# Altium integrated library BurglarAlarm.IntLib: 31 symbols
Pins are listed as number, name and electrical type; pins without a type are passive.

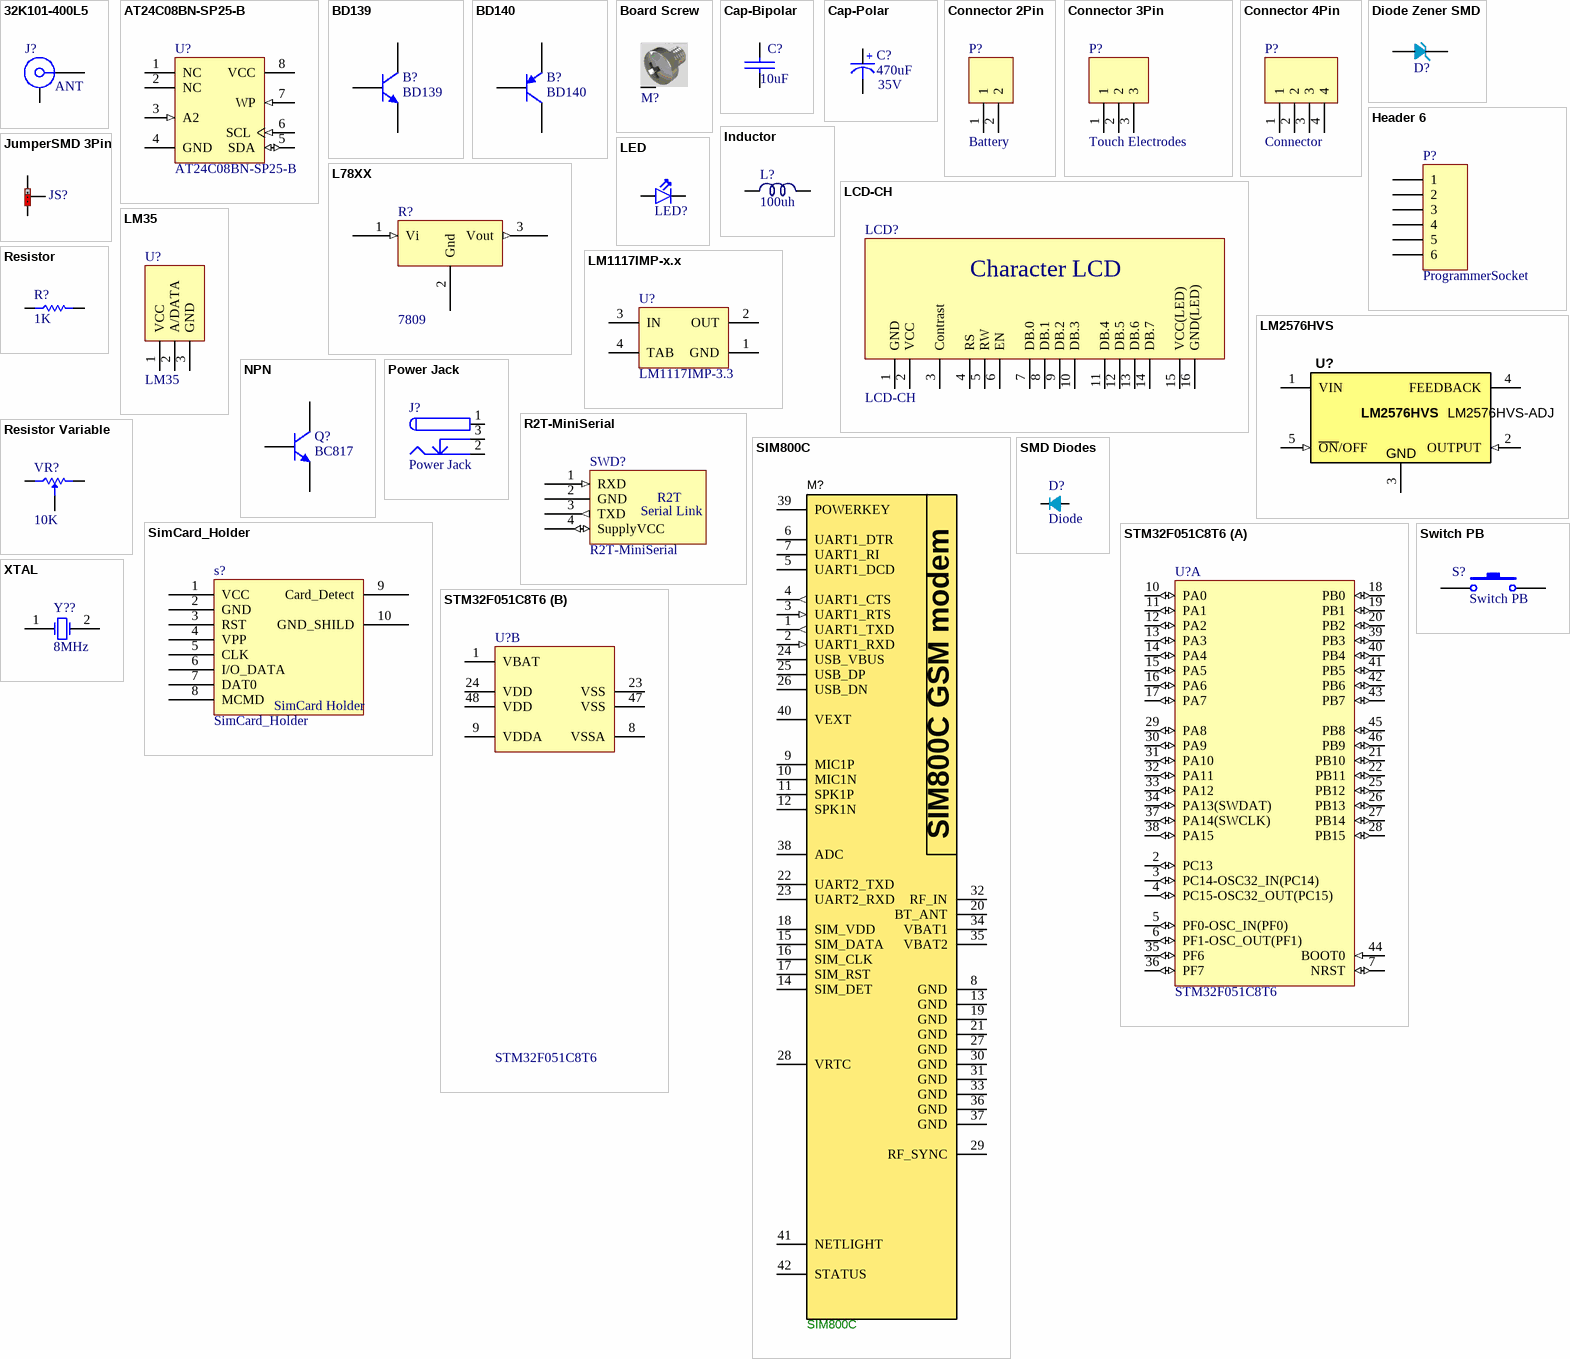
[diagram p0: symbols 32K101-400L5 to XTAL]

## 32K101-400L5
designator J?, comment ANT
SMA Straight Jack, Up to 18 GHz; PartNumber: 32K101-400L5; Design Note: Footprint in library is a generic example - only application specific footprint delivers High Performance; DatasheetVersion: a00; PackageVersion: a00; PackageReference: 32K101-400L5; PackageDescription: SMA Straight Jack, 6.35 x 6.35 x 9.5 mm; Mounting Technology: Through Hole; ComponentLink1Description: Manufacturer URL; ComponentLink1URL: http://www.rosenberger.de; ComponentLink2Description: Datasheet; ComponentLink2URL: http://rosenberger.de/ok/images/documents/db/32K101-400L5.pdf; ComponentLink3Description: Package Specification; ComponentLink3URL: http://rosenberger.de/ok/images/documents/db/32K101-400L5.pdf; ComponentLink4Description: Series Overview / Design Note; ComponentLink4URL: http://rosenberger.de/ok/images/documents/spez/32.pdf; ComponentLink5Description: Webshop / RFQ; ComponentLink5URL: http://www.rosenberger.com/en/contact/sales/
footprint ROS-32K101-400L5_V (SMA Straight Jack, 6.35x6.35x9.5mm, Rosenberger Recommended)
pins: 1, MH

## AT24C08BN-SP25-B
designator U?
8Kbit EEPROM; DatasheetVersion: 8517C,  Jan-2009; PackageVersion: revC, Mar-2005; PackageReference: 8S1; PackageDescription: 8-Lead (0.150" Wide Body), Plastic Gull Wing Small Outline (JEDEC SOIC); Code_JEDEC: MS-012-AA; Code_IPC: SOIC127P600-8; ComponentLink1Description: Manufacturer URL; ComponentLink1URL: http://www.atmel.com/; ComponentLink2Description: Datasheet; ComponentLink2URL: http://www.atmel.com/dyn/resources/prod_documents/doc8517.pdf
footprint 8S1_N (SOIC, 8-Leads, Body 4.9x3.9mm, Pitch 1.27mm, IPC Medium Density)
footprint 8S1_L (SOIC, 8-Leads, Body 4.9x3.9mm, Pitch 1.27mm, IPC High Density)
footprint 8S1_M (SOIC, 8-Leads, Body 4.9x3.9mm, Pitch 1.27mm, IPC Low Density)
pins: 1 NC, 2 NC, 3 A2 (in), 4 GND (power), 5 SDA (io), 6 SCL (in), 7 WP (in), 8 VCC (power)

## BD139
designator B?
BJT
footprint BD139
pins: B, C, E

## BD140
designator B?
PNP BJT
footprint BD140
pins: B, C, E

## Board Screw
designator M?, comment Screw  (value not drawn)
Board Screw With Spacer
footprint Board Screw
footprint Board Screw_No Silk
pins: S

## Cap-Bipolar
designator C?, comment 10uF
Bipolar Capacitor; Voltage: 100V; Designer: Saeid Jorablo; Organazation: ControTec; Adding Date: 1387/12/20; Value: 10uF
footprint Cap 1uF-400v-Right
footprint Cap 1uF-400V-Stand
footprint Cap 10nF
footprint Cap - 100nF
footprint Cap - 100nF - 2
footprint Cap_680nF
footprint CAP 1206 (3216X15L) (Chip Capacitor, 2-Leads, Body 3.2x1.6mm, IPC High Density)
footprint CAPP 1206 (3216X18L) Size A (Chip Capacitor, 2-Leads, Body 3.2x1.6mm, IPC High Density, chip Tantalum)
footprint Cap - 10nF - 630V
footprint Cap - 100nF - 400V
footprint Cap - 220n - 400V - Poly
footprint Cap - 330nF - 400V
footprint SMD_CAP_0603
footprint SMD_CAP_0805
footprint SMD_CAP_1206
pins: 1 +, 2 -

## Cap-Polar
designator C?, comment Voltage: 35V  (hidden comment: 470uF)
Polar Capacitor; Designer: Saeid Jorablo; Organazation: ControTec; Adding Date: 1387/12/20; Value: 470uF
footprint cap 00
footprint cap 01
footprint cap 02
footprint cap 03
footprint cap 04
footprint CAP 05
footprint CAPP 1206 (3216X18L) Size A (Chip Capacitor, 2-Leads, Body 3.2x1.6mm, IPC High Density, chip Tantalum)
pins: 1 +, 2 -

## Connector 2Pin
designator P?, comment Battery
12V Lead acid battery; Designer:: Hamed Jafarzadeh - www.R2T.ir
footprint Polarized Header 2
footprint Terminal Block 2pin
footprint Phoenix 2pin ST (-)
footprint PH Connector 2Pin
pins: 1, 2

## Connector 3Pin
designator P?, comment Touch Electrodes
3 pin PH connector; Designer:: Hamed Jafarzadeh - www.R2T.ir
footprint Polarized Header 3
footprint Terminal Block 3Pin
footprint Phoenix 3pin ST (-)
footprint PH Connector 3Pin
pins: 1, 2, 3

## Connector 4Pin
designator P?, comment Connector
PIR connector; Designer:: Hamed Jafarzadeh - www.R2T.ir
footprint Polarized Header 4
footprint Phoenix 4pin ST (-)
footprint PH 4A Connector
pins: 1, 2, 3, 4

## Diode Zener SMD
designator D?, comment SS34  (value not drawn)
Fast or shotky Diode; Designer: Hamed Jafarzadeh
footprint DIOMELF3615N (MELF Diode, 2-Leads, Body 3.6x1.5mm, IPC Medium Density)
footprint Diode Zener 1W SMD-SOD106 (MELF Diode, 2-Leads, Body 3.6x1.5mm, IPC Medium Density)
pins: 1, 2

## Header 6
designator P?, comment ProgrammerSocket
programming socket; LatestRevisionDate: 17-Jul-2002; LatestRevisionNote: Re-released for DXP Platform.; Publisher: Altium Limited
footprint HDR1X6 (Connector; Header; 6 Position)
signal-integrity model Connector
pins: 1, 2, 3, 4, 5, 6

## Inductor
designator L?, comment 100uh
Inductor; Designer:: Hamed Jafarzadeh - hjafarzadeh511@gmail.com
footprint General 10x12(200m) Inductor
footprint INDChip_0805
footprint INDChip_1206
pins: 1, 2

## JumperSMD 3Pin
designator JS?  (value not drawn)
footprint JumperSMD 3Pin
footprint JumperSMD 3Pin - UltraSmall
pins: 1, 2, 3

## L78XX
designator R?, comment L7809  (value not drawn)
7809 deep 9V Linear Regulator
footprint To-220 (L78XX)
pins: 1 Vi (in), 2 Gnd, 3 Vout (out)
text: 7809

## LCD-CH
designator LCD?
LCD 16*2
footprint LCD2-16
footprint LCD4*20
pins: 1 GND, 2 VCC, 3 Contrast, 4 RS, 5 RW, 6 EN, 7 DB.0, 8 DB.1, 9 DB.2, 10 DB.3, 11 DB.4, 12 DB.5, 13 DB.6, 14 DB.7, 15 VCC(LED), 16 GND(LED)
text: Character LCD

## LED
designator LED?  (value not drawn)
Designer :: Razi Research Team Of Mashhad - Hamed Jafarzadeh
footprint LED0603
footprint LED0805
footprint LED1206
pins: 1 A, 2 K

## LM35
designator U?
Temperature sensor
footprint LM35
pins: 1 VCC, 2 A/DATA, 3 GND

## LM1117IMP-x.x
designator U?, comment LM1117IMP-3.3
3.3 Volt, 800mA Linear Regulator; Manufacturer: National Semiconductor; PackageTopMarking: XYTT*N05B; PowerWise: N; CompType: LDO IC; Published: 4-Dec-2008; DatasheetVersion: Apr-2006; PackageVersion: revB, Apr-2003; PackageReference: MP04A; Publisher: Altium Limited; PackageDescription: Molded SOT-223, 6.50 x 3.56 x 1.6mm Body, 4 Lead, 2.3mm Pitch; Supplier 1: Farnell; Supplier Part Number 1: 7614123; PartNumber: LM1117IMP-3.3; RoHS: N; PinCount: 4; Code_JEDEC: TO-261-AA; Code_IPC: SOT223-4; ComponentLink1Description: LM1117 Datasheet; ComponentLink1URL: http://www.national.com/ds/LM/LM1117.pdf; ComponentLink2Description: LM1117 Web Page; ComponentLink2URL: http://www.national.com/pf/LM/LM1117.html; ComponentLink3Description: MP04A Package Page; ComponentLink3URL: http://www.national.com/packaging/folders/mp04a.html
footprint MP04A_N (SOT223, 4-Leads, Body 6.5x3.5mm, Pitch 2.3mm, Lead Span 7mm, IPC Medium Density)
footprint MP04A_L (SOT223, 4-Leads, Body 6.5x3.5mm, Pitch 2.3mm, Lead Span 7mm, IPC High Density)
footprint MP04A_M (SOT223, 4-Leads, Body 6.5x3.5mm, Pitch 2.3mm, Lead Span 7mm, IPC Low Density)
pins: 1 GND (power), 2 OUT (power), 3 IN (power), 4 TAB (power)

## LM2576HVS
designator U?, comment LM2576HVS-ADJ  Manufacturer Part Number 1: LM2576HVS
Switching Voltage Regulator, SMD, LM2576HVS-Adjustable; Manufacturer 1: National Semiconductor; Voltage Regulator Type: Switching Buck; Tolerance: ±4%; Ratings: 60Vin Max; 150kHz; Value: 5V; 1A; SCDType: source; Package / Case: TO-263-5; Supplier 1: Digi-Key; Supplier Part Number 1: LM2591HVS-5.0-ND
footprint TO-263-5 (D-PAK/TO-263-5; 5 Leads; Body 14.4 (inc. leads) x 10.4 mm (LxW max))
pins: 1 VIN (power), 2 OUTPUT (in), 3 GND (power), 4 FEEDBACK (power), 5 ~{ON}/OFF (in)

## NPN
designator Q?, comment BC817
NPN Bipolar Transistor; Published: 8-Jun-2000; LatestRevisionDate: 29-May-2009; LatestRevisionNote: IPC-7351 Footprint Added.; PackageVersion: Aug-1999; PackageReference: SOT-23B; Publisher: Altium Limited; PackageDescription: 3-Pin SOT-23 Package 0.95 mm Pitch, 2.4 mm Lead Span
signal-integrity model NPN
footprint SOT23_BEC_L (SOT23, 3-Leads, Body 2.9x1.3mm, Pitch 0.95mm, Lead Span 2.4mm, IPC High Density)
footprint SOT23_BEC_M (SOT23, 3-Leads, Body 2.9x1.3mm, Pitch 0.95mm, Lead Span 2.4mm, IPC Low Density)
footprint SOT23_BEC_N (SOT23, 3-Leads, Body 2.9x1.3mm, Pitch 0.95mm, Lead Span 2.4mm, IPC Medium Density)
pins: 1 B, 2 E, 3 C

## Power Jack
designator J?
15V DC 1A Adaptor; Designer: Saeid Jorablo; Company: Personal; Project Name: Laser; Adding Date: 10/21/2009
footprint Power Jack
pins: 1 (power), 2 (power), 3 (power)

## R2T-MiniSerial
designator SWD?
USART connector
footprint SerialWireMini
pins: 1 RXD (in), 2 GND, 3 TXD (out), 4 SupplyVCC (io)
text: R2T; Serial Link

## Resistor
designator R?, comment 1K
Resistor; Tolerance: 5%; Power: 1/8 W; Value: 1K
simulation model Model Name (Model Description)
footprint Res-(1/8)
footprint Res-(1/4)
footprint Res-(1/2)
footprint Res-(1/1)
footprint Res-(2/1)
footprint RES 0201 (0603X03L) (Chip Resistor, 2-Leads, Body 0.6x0.3mm, IPC High Density (0.05 W))
footprint RES 0402 (1005X04L) (Chip Resistor, 2-Leads, Body 1.0x0.5mm, IPC High Density _ (0.031/0.063 W))
footprint RES 0603 (1608X06L) (Chip Resistor, 2-Leads, Body 1.6x0.8mm, IPC High Density _ (0.063W))
footprint RES 0805 (2012X06L) (Chip Resistor, 2-Leads, Body 2.0x1.3mm, IPC High Density _ (0.100 W))
footprint RES 1206 (3216X08L) (Chip Resistor, 2-Leads, Body 3.2x1.6mm, IPC High Density _ (0.125 W))
footprint RES 1210 (3226X07L) (Chip Resistor, 2-Leads, Body 3.2x2.6mm, IPC High Density _ (0.250 W))
footprint RES 1217 (3042X09L) (Chip Resistor, 2-Leads, Body 3.0x4.2mm, IPC High Density _ (0.250 W))
footprint RES 2010 (5026X08L) (Chip Resistor, 2-Leads, Body 5.0x2.6mm, IPC High Density _ (0.250 W))
footprint RES 2020 (5151X09L) (Chip Resistor, 2-Leads, Body 5.1x5.1mm, IPC High Density _ (0.5 W))
footprint RES 2045 (50115X09L) (Chip Resistor, 2-Leads, Body 5.0x11.5mm, IPC High Density _ (1.0 W))
footprint RES 2512 (6331X07L) (Chip Resistor, 2-Leads, Body 6.3x3.1mm, IPC High Density _ (0.500 W))
footprint Res-(1/4)-Stand
footprint Res-(5/1)-Stand
footprint SMD_RES_0603 (Chip Resistor, 2-Leads, Body 1.6x0.8mm, IPC High Density _ (0.063W))
footprint SMD_RES_0805 (Chip Resistor, 2-Leads, Body 2.0x1.3mm, IPC High Density _ (0.100 W))
footprint SMD_RES_1206 (Chip Resistor, 2-Leads, Body 3.2x1.6mm, IPC High Density _ (0.125 W))
pins: 1, 2

## Resistor Variable
designator VR?, comment 10K
Variable Resistor; Designer: Saeid Jorablo; Company: ControTec; Adding Date: 137/12/22; Value: 10K
footprint Pot 00
footprint Multi Turn 02
pins: 1 CCW, 2 CW, 3 Setpoint

## SIM800C
designator M?
Sim800c GSM modem
footprint SIM800C
footprint Sim800c
pins: 1 UART1_TXD (out), 2 UART1_RXD (in), 3 UART1_RTS (in), 4 UART1_CTS (out), 5 UART1_DCD, 6 UART1_DTR, 7 UART1_RI, 8 GND, 9 MIC1P, 10 MIC1N, 11 SPK1P, 12 SPK1N, 13 GND, 14 SIM_DET, 15 SIM_DATA, 16 SIM_CLK, 17 SIM_RST, 18 SIM_VDD, 19 GND, 20 BT_ANT, 21 GND, 22 UART2_TXD, 23 UART2_RXD, 24 USB_VBUS, 25 USB_DP, 26 USB_DN, 27 GND, 28 VRTC, 29 RF_SYNC, 30 GND, 31 GND, 32 RF_IN, 33 GND, 34 VBAT1, 35 VBAT2, 36 GND, 37 GND, 38 ADC, 39 POWERKEY, 40 VEXT, 41 NETLIGHT, 42 STATUS
text: SIM800C GSM modem

## SimCard_Holder
designator s?
Sim Holder
footprint Standard_Sim
pins: 1 VCC (hiz), 2 GND (hiz), 3 RST (hiz), 4 VPP (hiz), 5 CLK (hiz), 6 I/O_DATA (hiz), 7 DAT0 (hiz), 8 MCMD (hiz), 9 Card_Detect (hiz), 10 GND_SHILD (hiz)
text: SimCard Holder

## SMD Diodes
designator D?, comment Description:: Diode  (hidden comment: 1N4007)
SMD Diode; Designer :: Hamed Jafarzadeh
footprint DO-214AC ( SMD Diode )
footprint SMB-CASE 403-A03 (Molded Diode,MURS120T)
pins: 0, 1

## STM32F051C8T6
designator U?
ARM Cortex-M0 32-bit, 48-pin LQFP; FLASH Size (Prog) (kB): 64; I/Os (High Current): 39; Internal RAM Size (kB): 8; Operating Frequency(F) (Processor speed) (MHz): 48; Packing: Tray; Supply Voltage(Vcc) min (V): 2; DatasheetVersion: Rev. 3; PackageVersion: Rev. 6, 06/2013; PackageReference: LQFP48; PackageDescription: 48-Pin Low Profile Quad Flat Package, 7 x 7 mm Body, 0.5 mm Pitch; Supplier 1: Digi-Key; Supplier Part Number 1: 497-12893-ND; Supplier 2: Farnell; Supplier Part Number 2: 2115065; Supplier 3: Newark; Supplier Part Number 3: 05W5802; Supplier 4: Newark; Supplier Part Number 4: 90T0636; Supplier 5: Mouser; Supplier Part Number 5: 511-STM32F051C8T6; Core: ARM Cortex-M0; Mounting Technology: Surface Mount; PartNumber: STM32F051C8T6; ComponentLink1Description: Manufacturer URL; ComponentLink1URL: http://www.st.com/web/en/home.html; ComponentLink2Description: Datasheet; ComponentLink2URL: http://www.st.com/st-web-ui/static/active/en/resource/technical/document/datasheet/DM00039193.pdf; ComponentLink3Description: Package Specification; ComponentLink3URL: http://www.st.com/st-web-ui/static/active/en/resource/technical/document/datasheet/DM00058181.pdf
footprint STM-LQFP48_N (QFP, 48-Leads, Body 7x7mm, Pitch 0.5mm, IPC Medium Density)
footprint STM-LQFP48_L (QFP, 48-Leads, Body 7x7mm, Pitch 0.5mm, IPC High Density)
footprint STM-LQFP48_M (QFP, 48-Leads, Body 7x7mm, Pitch 0.5mm, IPC Low Density)
part A pins: 2 PC13 (io) "PC13/RTC_TAMP1,RTC_TS,RTC_OUT,WKUP2", 3 PC14-OSC32_IN(PC14) (io) "PC14-OSC32_IN(PC14)/OSC32_IN", 4 PC15-OSC32_OUT(PC15) (io) "PC15-OSC32_OUT(PC15)/OSC32_OUT", 5 PF0-OSC_IN(PF0) (io) "PF0-OSC_IN(PF0)/OSC_IN", 6 PF1-OSC_OUT(PF1) (io) "PF1-OSC_OUT(PF1)/OSC_OUT", 7 NRST (io) "Device  reset  input  /  internal  reset  output  (active  low)", 10 PA0 (io) "PA0/USART2_CTS,TIM2_CH1_ETR,COMP1_OUT,TSC_G1_IO1/ADC_IN0,COMP1_INM6,RTC_TAMP2,WKUP1", 11 PA1 (io) "PA1/USART2_RTS,TIM2_CH2,TSC_G1_IO2,EVENTOUT/ADC_IN1,COMP1_INP", 12 PA2 (io) "PA2/USART2_TX,TIM2_CH3,TIM15_CH1,COMP2_OUT,TSC_G1_IO3/ADC_IN2,COMP2_INM6", 13 PA3 (io) "PA3/USART2_RX,TIM2_CH4,TIM15_CH2,TSC_G1_IO4/ADC_IN3,COMP2_INP", 14 PA4 (io) "PA4/SPI1_NSS/I2S1_WS,USART2_CK,TIM14_CH1,TSC_G2_IO1/ADC_IN4,COMP1_INM4,COMP2_INM4,DAC1_OUT", 15 PA5 (io) "PA5/SPI1_SCK/I2S1_CK,CEC,TIM2_CH1_ETR,TSC_G2_IO2/ADC_IN5,COMP1_INM5,COMP2_INM5", 16 PA6 (io) "PA6/SPI1_MISO/I2S1_MCK,TIM3_CH1,TIM1_BKIN,TIM16_CH1,COMP1_OUT,TSC_G2_IO3,EVENTOUT/ADC_IN6", 17 PA7 (io) "PA7/SPI1_MOSI/I2S1_SD,TIM3_CH2,TIM14_CH1,TIM1_CH1N,TIM17_CH1,COMP2_OUT,TSC_G2_IO4,EVENTOUT/ADC_IN7", 18 PB0 (io) "PB0/TIM3_CH3,TIM1_CH2N,TSC_G3_IO2,EVENTOUT/ADC_IN8", 19 PB1 (io) "PB1/TIM3_CH4,TIM14_CH1,TIM1_CH3N,TSC_G3_IO3/ADC_IN9", 20 PB2 (io) "PB2/TSC_G3_IO4", 21 PB10 (io) "PB10/I2C2_SCL,CEC,TIM2_CH3,TSC_SYNC", 22 PB11 (io) "PB11/I2C2_SDA,TIM2_CH4,TSC_G6_IO1,EVENTOUT", 25 PB12 (io) "PB12/SPI2_NSS,TIM1_BKIN,TSC_G6_IO2,EVENTOUT", 26 PB13 (io) "PB13/SPI2_SCK,TIM1_CH1N,TSC_G6_IO3", 27 PB14 (io) "PB14/SPI2_MISO,TIM1_CH2N,TIM15_CH1,TSC_G6_IO4", 28 PB15 (io) "PB15/SPI2_MOSI,TIM1_CH3N,TIM15_CH1N,TIM15_CH2/RTC_REFIN", 29 PA8 (io) "PA8/USART1_CK,TIM1_CH1,EVENTOUT,MCO", 30 PA9 (io) "PA9/USART1_TX,TIM1_CH2,TIM15_BKIN,TSC_G4_IO1", 31 PA10 (io) "PA10/USART1_RX,TIM1_CH3,TIM17_BKIN,TSC_G4_IO2", 32 PA11 (io) "PA11/USART1_CTS,TIM1_CH4,COMP1_OUT,TSC_G4_IO3,EVENTOUT", 33 PA12 (io) "PA12/USART1_RTS,TIM1_ETR,COMP2_OUT,TSC_G4_IO4,EVENTOUT", 34 PA13(SWDAT) (io) "PA13(SWDAT)/IR_OUT,SWDAT", 35 PF6 (io) "PF6/I2C2_SCL", 36 PF7 (io) "PF7/I2C2_SDA", 37 PA14(SWCLK) (io) "PA14(SWCLK)/USART2_TX,SWCLK", 38 PA15 (io) "PA15/SPI1_NSS/I2S1_WS,USART2_RX,TIM2_CH1_ETR,EVENTOUT", 39 PB3 (io) "PB3/SPI1_SCK/I2S1_CK,TIM2_CH2,TSC_G5_IO1,EVENTOUT", 40 PB4 (io) "PB4/SPI1_MISO/I2S1_MCK,TIM3_CH1,TSC_G5_IO2,EVENTOUT", 41 PB5 (io) "PB5/SPI1_MOSI,I2S1_SD,I2C1_SMBA,TIM16_BKIN,TIM3_CH2", 42 PB6 (io) "PB6/I2C1_SCL,USART1_TX,TIM16_CH1N,TSC_G5_IO3", 43 PB7 (io) "PB7/I2C1_SDA,USART1_RX,TIM17_CH1N,TSC_G5_IO4", 44 BOOT0 (in) "Boot memory selection", 45 PB8 (io) "PB8/I2C1_SCL,CEC,TIM16_CH1,TSC_SYNC", 46 PB9 (io) "PB9/I2C1_SDA,IR_OUT,TIM17_CH1,EVENTOUT"
part B pins: 1 VBAT (power) "Backup power supply", 8 VSSA (power) "Analog ground", 9 VDDA (power) "Analog power supply", 23 VSS (power) "Ground", 24 VDD (power) "Digital power supply", 47 VSS (power) "Ground", 48 VDD (power) "Digital power supply"

## Switch PB
designator S?
Push Button Switch
footprint Switch - Push to On
footprint SW-PB
pins: 1, 2

## XTAL
designator Y??, comment 8MHz
8 MHz; Company: E.P.I.L; Design Date: 11/04/2011; Value: 8MHz
footprint Crystal SMD
footprint XTAL
footprint XTAL Small
footprint XTAL RTC
pins: 1 OSC1, 2 OSC2